# Altium schematic symbol library Display.SchLib: 3 symbols
Pins are listed as number, name and electrical type; pins without a type are passive.

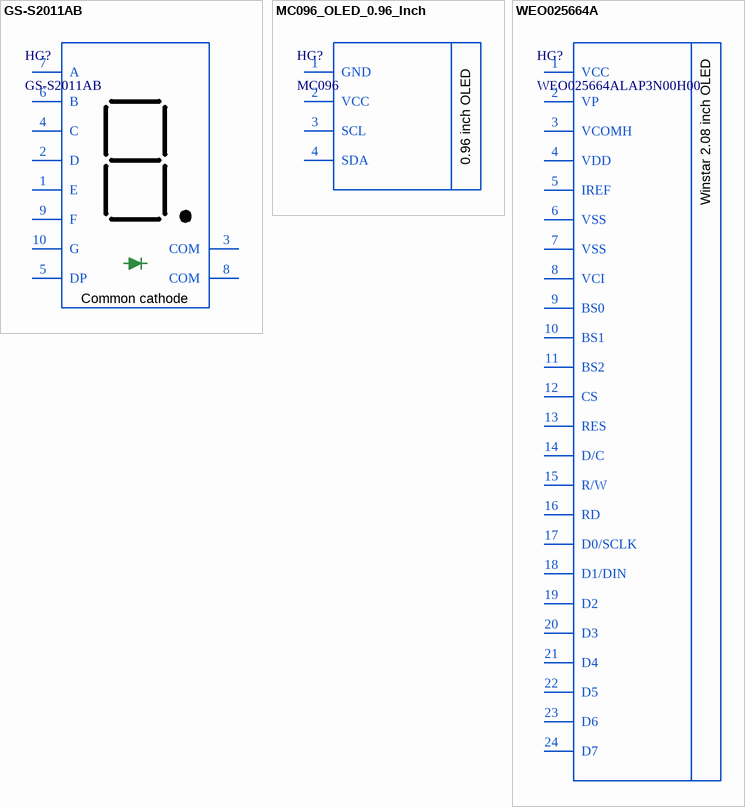
[diagram p0: symbols GS-S2011AB to WEO025664A]

## GS-S2011AB
designator HG?
7-Segment LED Display; Manufacturer: Noname; PartNumber: GS-S2011AB; ItemType: Display; ItemSubType: 7-Segment; Mounting: SMD
footprint GS-S2011AB (0.2'' LED Display)
pins: 1 E, 2 D, 3 COM, 4 C, 5 DP, 6 B, 7 A, 8 COM, 9 F, 10 G
text: Common cathode

## MC096_OLED_0.96_Inch
designator HG?, comment MC096
0.96 Inch I2C OLED Display Module; Manufacturer: Noname; PartNumber: MC096; ItemType: Display; ItemSubType: OLED; Mounting: THT
footprint MC096_OLED (0.96 OLED Display MC096)
pins: 1 GND, 2 VCC, 3 SCL, 4 SDA
text: 0.96 inch OLED

## WEO025664A
designator HG?, comment WEO025664ALAP3N00H00
2.08 Inch I2C OLED Display Module; Manufacturer: Winstar; PartNumber: WEO025664ALAP3N00H00; ItemType: Display; ItemSubType: OLED; Mounting: SMD
footprint WEO025664ALAP3N00H00
pins: 1 VCC, 2 VP, 3 VCOMH, 4 VDD, 5 IREF, 6 VSS, 7 VSS, 8 VCI, 9 BS0, 10 BS1, 11 BS2, 12 CS, 13 RES, 14 D/C, 15 R/W, 16 RD, 17 D0/SCLK, 18 D1/DIN, 19 D2, 20 D3, 21 D4, 22 D5, 23 D6, 24 D7
text: Winstar 2.08 inch OLED